# EAGLE library part MCU_W25Q128JV (library Module_AIO)
3V 128M-BIT SERIAL FLASH MEMORY WITH DUAL/QUAD SPI & QPI & DTR
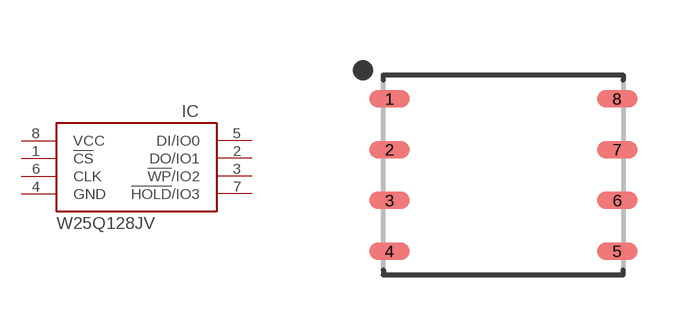
[diagram p6: symbol with the pads of MCU_SON127P600X500X75-8N; footprint MCU_SON127P600X500X75-8N]

Designator prefix IC

## MCU_W25Q128JVP  [MCU_SON127P600X500X75-8N]
1  !CS
2  DO/IO1
3  !WP!/IO2
4  GND  sup
5  DI/IO0
6  CLK
7  !HOLD!/IO3
8  VCC  sup

## Footprint MCU_SON127P600X500X75-8N (pad centres in mm)
8-SON (DFN), 1.27 mm pitch, 5.00 X 6.00 X 0.75 mm body 8-pin SON (DFN) package with 1.27 mm pitch with body size 5.00 X 6.00 X 0.75 mm
smd 1.012 x 0.432: 1 -2.85,1.905; 2 -2.85,0.635; 3 -2.85,-0.635; 4 -2.85,-1.905; 5 2.85,-1.905; 6 2.85,-0.635; 7 2.85,0.635; 8 2.85,1.905